# Altium footprint library DO-214AC_SMA.PcbLib: 1 footprints
Each footprint in its own frame and in the unit in brackets; x right, y up, seen from the top. Pads: shape width x height; smd on the part's side, far side on the other; paste and mask are expansions set on the pad; w line width, h text height; cw(c..) or ccw(c..) is an arc to the next point about the centre after c.
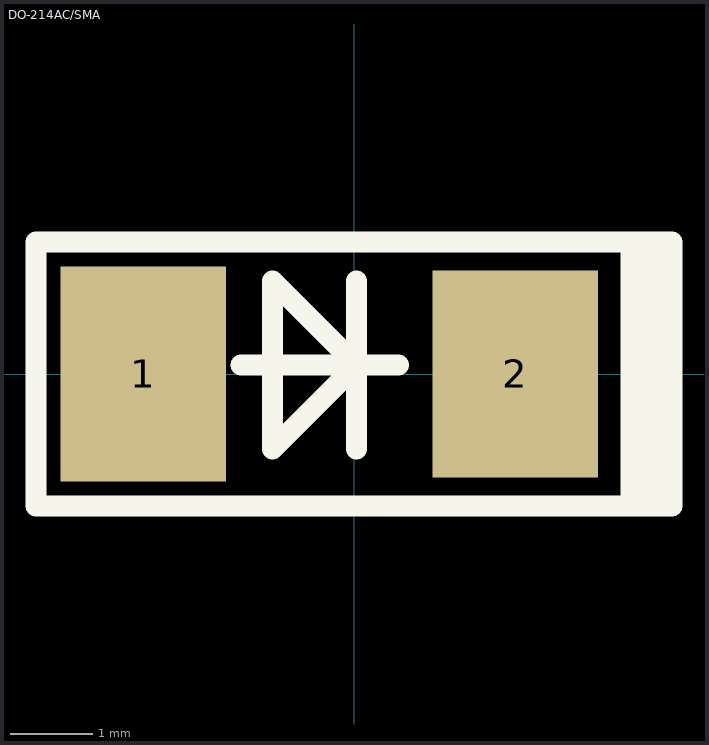
[diagram p0: the footprint, top view; thin cyan lines are the x and y axes]

## DO-214AC/SMA [mm]
pads (2):
  rect 2x2.6 smd paste+0 mask+0.051: 1(-2.55,0)
  rect 2x2.5 smd paste+0 mask+0.051: 2(1.95,0)
Top Overlay:
  lines w0.254: -1.369,0.107 0.536,0.107 ; 0.028,-0.909 0.028,1.123 ; 3.35,-1.5 3.35,1.6 ; 3.45,-1.6 3.45,1.5 ; 3.35,1.6 3.65,1.6 ; 3.35,1.6 -3.85,1.6 -3.85,-1.1 -3.85,-1.6 3.65,-1.6 ; 3.65,-1.6 3.65,1.6 ; 3.65,-1.6 3.85,-1.6 3.85,1.6 3.65,1.6 ; -0.988,-0.909 0.028,0.107 -0.988,1.123 -0.988,-0.909